# Altium footprint library Component.PcbLib: 46 footprints (part 3 of 3)
Each footprint in its own frame and in the unit in brackets; x right, y up, seen from the top. Pads: shape width x height; smd on the part's side, far side on the other; paste and mask are expansions set on the pad; w line width, h text height; cw(c..) or ccw(c..) is an arc to the next point about the centre after c.
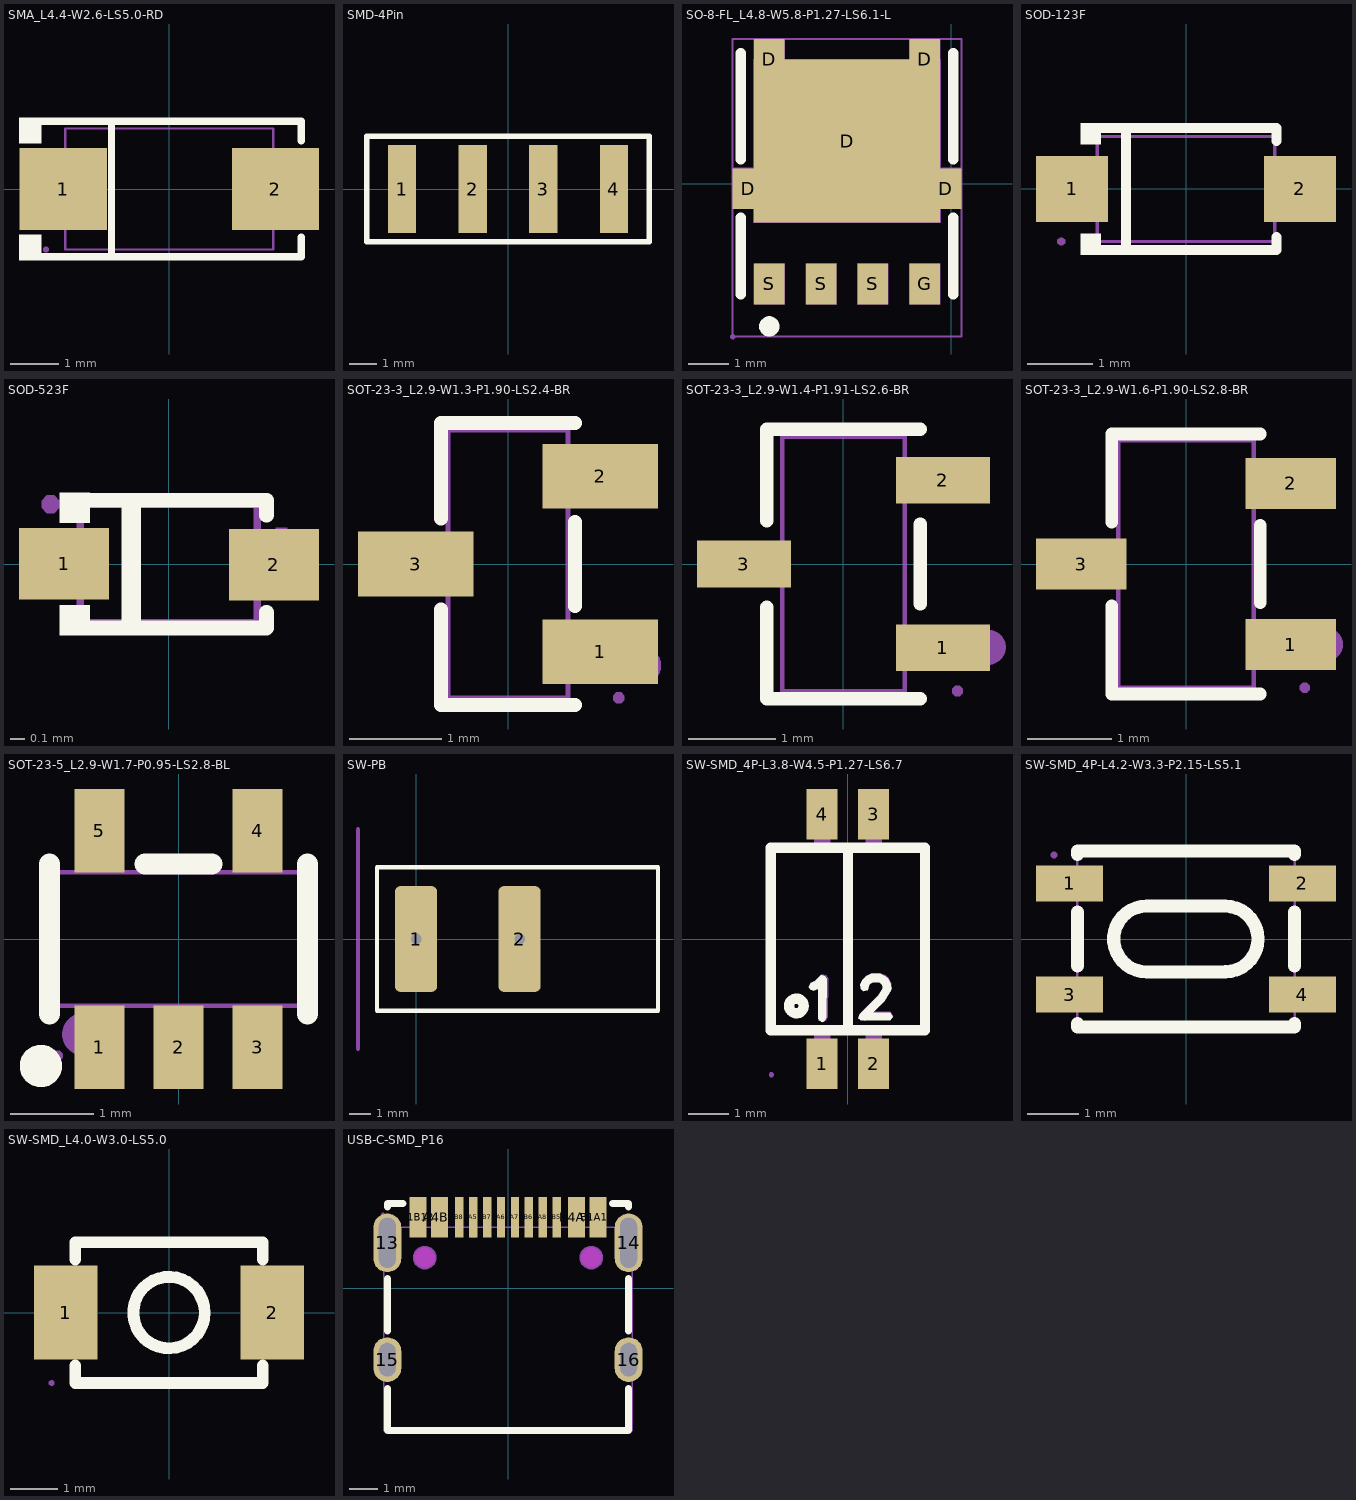
[diagram p2: the footprints below, top view; thin cyan lines are the x and y axes]

## SMA_L4.4-W2.6-LS5.0-RD [mm]
pads (2):
  rect 1.8x1.7 smd paste+0 mask+0.051: 1(-2.192,0) 2(2.192,0)
Top Overlay:
  region: -2.65,1.477 -2.65,0.949 -3.107,0.949 -3.107,1.477
  region: -2.65,-1.477 -2.65,-0.949 -3.107,-0.949 -3.107,-1.477
  lines w0.152: -2.726,-1.401 2.726,-1.401 2.726,-1 ; -2.726,1.401 2.726,1.401 2.726,1 ; -1.197,-1.401 -1.197,1.401
Mechanical 6:
  region: -2.451,-0.099 -2.451,0.099 -1.656,0.099 -1.656,-0.099
  region: 2.451,-0.099 2.451,0.099 1.656,0.099 1.656,-0.099
  region: 2.153,-0.663 2.153,0.663 1.954,0.663 1.954,-0.663
Mechanical 15:
  region: -2.55,-1.19 -2.525,-1.19 -2.49,-1.225 -2.49,-1.275 -2.525,-1.31 -2.55,-1.31 -2.575,-1.31 -2.61,-1.275 -2.61,-1.225 -2.575,-1.19 -2.55,-1.19
  region: -1.35,0.725 -1.35,-0.725 -2.55,-0.725 -2.55,0.725
  region: 1.35,-0.725 1.35,0.725 2.55,0.725 2.55,-0.725
  lines w0.051: -2.15,-1.25 -2.15,1.25 2.15,1.25 2.15,-1.25 -2.15,-1.25
3D body "3D_PCB1_2023-08-16.step": height 2.1, standoff 0, extent -2.6,-1.245 2.6,1.255

## SMD-4Pin [mm]
pads (4):
  rect 1.02x3.17 smd paste+0 mask+0.051: 1(-3.81,0) 2(-1.27,0) 3(1.27,0) 4(3.81,0)
Top Overlay:
  lines w0.2: -5.08,-1.905 -5.08,1.905 5.08,1.905 5.08,-1.905 -5.08,-1.905
Mechanical 15:
  region: 3.49,0.446 4.13,0.446 4.13,-0.904 3.49,-0.904
  region: 0.95,0.446 1.59,0.446 1.59,-0.904 0.95,-0.904
  region: -1.59,0.446 -0.95,0.446 -0.95,-0.904 -1.59,-0.904
  region: -4.13,0.446 -3.49,0.446 -3.49,-0.904 -4.13,-0.904

## SO-8-FL_L4.8-W5.8-P1.27-LS6.1-L [mm]
pads (9):
  rect 0.75x1 smd paste+0 mask+0.051: D(-4.975,-0.12) D(-4.455,3.05) D(-0.645,3.05) D(-0.125,-0.12) G(-0.645,-2.45) S(-4.455,-2.45) S(-3.185,-2.45) S(-1.915,-2.45)
  rect 4.56x4 smd paste+0 mask+0.051: D(-2.55,1.05)
Top Overlay:
  lines w0.249: -4.455,-3.366 ccw(c-4.454,-3.49) -4.452,-3.366
  lines w0.254: -5.15,-2.702 -5.15,-0.833 ; -5.15,0.6 -5.15,3.2 ; 0.05,-2.702 0.05,-0.833 ; 0.05,0.6 0.05,3.2
Mechanical 15:
  region: -4.85,-0.95 -4.85,3.05 -0.25,3.05 -0.25,-0.95
  region: -3.56,-2.95 -3.56,-1.95 -2.81,-1.95 -2.81,-2.95
  region: -4.83,-2.95 -4.83,-1.95 -4.08,-1.95 -4.08,-2.95
  region: -2.29,-2.95 -2.29,-1.95 -1.54,-1.95 -1.54,-2.95
  region: -1.02,-2.95 -1.02,-1.95 -0.27,-1.95 -0.27,-2.95
  region: -4.83,2.55 -4.83,3.55 -4.08,3.55 -4.08,2.55
  region: -1.02,2.55 -1.02,3.55 -0.27,3.55 -0.27,2.55
  region: -0.25,-0.6 -0.25,0.4 0.25,0.4 0.25,-0.6
  region: -5.35,-0.6 -5.35,0.4 -4.85,0.4 -4.85,-0.6
  region: -5.29,-3.739 -5.29,-3.714 -5.325,-3.679 -5.375,-3.679 -5.41,-3.714 -5.41,-3.739 -5.41,-3.764 -5.375,-3.799 -5.325,-3.799 -5.29,-3.764
  lines w0.051: -5.35,-3.739 -5.35,3.55 0.25,3.55 0.25,-3.739 -5.35,-3.739
3D body "User Library-DFN5x6_SO8FL.STEP": height 1.13, standoff 0, extent -5.115,-2.769 0.035,3.381

## SOD-123F [mm] "L2.7-W1.6-LS3.8-RD"
pads (2):
  rect 1.1x1 smd mask+0.051: 1(-1.735,0) 2(1.735,0)
Top Overlay:
  region: -1.3,1.002 -1.3,0.682 -1.605,0.682 -1.605,1.002
  region: -1.3,-1.003 -1.3,-0.683 -1.605,-0.683 -1.605,-1.003
  lines w0.152: -1.376,-0.926 1.376,-0.926 1.376,-0.733 ; -1.376,0.926 1.376,0.926 1.376,0.733 ; -0.917,-0.876 -0.917,0.876
Mechanical 6:
  region: -2.032,0.127 -2.032,-0.065 -1.264,-0.065 -1.264,0.127
  region: 2.035,0.096 2.035,-0.096 1.267,-0.096 1.267,0.096
  region: 1.747,-0.384 1.555,-0.384 1.555,0.384 1.747,0.384
Mechanical 15:
  region: -1.84,-0.8 -1.84,-0.775 -1.875,-0.74 -1.925,-0.74 -1.96,-0.775 -1.96,-0.8 -1.96,-0.825 -1.925,-0.86 -1.875,-0.86 -1.84,-0.825
  region: 1.9,0.275 1.9,-0.275 1.31,-0.275 1.31,0.275
  region: -1.9,-0.275 -1.9,0.275 -1.31,0.275 -1.31,-0.275
  lines w0.051: -1.35,-0.8 -1.35,0.8 1.35,0.8 1.35,-0.8 -1.35,-0.8
3D body "3D_PCB1_2023-02-23.step": height 1.1, standoff 0, extent -1.925,-0.787 1.875,0.813

## SOD-523F [mil] "L1.2-W0.8-LS1.7-RD"
pads (2):
  rect 24x19 smd: 1(-27.87,0.08) 2(28,-0.19)
Top Overlay:
  region: -21,-11 -25,-11 -29,-11 -29,-19 -21,-19
  region: -21,19 -25,19 -29,19 -29,11 -21,11
  region: -12.51,-16.5 -12.51,16.5 -7.5,16.5 -7.5,-16.5
  lines w3.94: -26,17 26,17 26,13 ; 25.99,-12.84 25.99,-17 -26.01,-17 ; -26.01,-17 -26,-17
Mechanical 6:
  region: 28.5,-7.34 28.5,9.66 31.5,9.66 31.5,-7.34
  region: 22,3.16 38.99,3.16 38.99,0.16 22,0.16
  region: -35.01,4.16 -19,4.16 -19,0.16 -35.01,0.16
Mechanical 15:
  region: 20,-5.85 31.49,-5.85 31.49,5.96 20,5.96
  region: -20,6.1 -31.5,6.1 -31.5,-5.71 -20,-5.71
  region: -29.14,15.91 -29.14,16.89 -30.52,18.27 -32.48,18.27 -33.86,16.89 -33.86,15.91 -33.86,14.93 -32.48,13.55 -30.52,13.55 -29.14,14.93
  lines w2: -23.63,-15.59 -23.63,15.91 23.62,15.91 23.62,-15.59 -23.63,-15.59
3D body "3D_PCB1_2023-02-22.step": height 24.02, standoff 0, extent -31.5,-16 31.5,15.5

## SOT-23-3_L2.9-W1.3-P1.90-LS2.4-BR [mm]
pads (3):
  rect 1.25x0.7 smd: 1(1,-0.95) 2(1,0.95) 3(-1,0)
Top Overlay:
  lines w0.152: -0.726,-0.495 -0.726,-1.526 0.726,-1.526 ; -0.726,0.495 -0.726,1.526 0.726,1.526 ; 0.726,-0.455 0.726,0.455
Mechanical 6:
  circle w0.2: c1.46,-1.1 r0.1
Mechanical 15:
  region: 1.26,-1.45 1.26,-1.425 1.225,-1.39 1.175,-1.39 1.14,-1.425 1.14,-1.45 1.14,-1.475 1.175,-1.51 1.225,-1.51 1.26,-1.475
  region: 0.64,0.735 0.64,1.165 0.91,1.165 0.91,0.735
  region: 0.9,0.735 0.9,1.165 1.2,1.165 1.2,0.735
  region: 0.64,-1.165 0.64,-0.735 0.91,-0.735 0.91,-1.165
  region: 0.9,-1.165 0.9,-0.735 1.2,-0.735 1.2,-1.165
  region: -0.91,-0.215 -0.91,0.215 -0.64,0.215 -0.64,-0.215
  region: -1.2,-0.215 -1.2,0.215 -0.9,0.215 -0.9,-0.215
  lines w0.051: -0.65,-1.45 -0.65,1.45 0.65,1.45 0.65,-1.45 -0.65,-1.45

## SOT-23-3_L2.9-W1.4-P1.91-LS2.6-BR [mm]
pads (3):
  rect 1.07x0.532 smd: 1(1.135,-0.955) 2(1.135,0.955) 3(-1.135,0)
Top Overlay:
  lines w0.152: -0.876,-0.495 -0.876,-1.536 0.876,-1.536 ; -0.876,0.495 -0.876,1.536 0.876,1.536 ; 0.876,-0.455 0.876,0.455
Mechanical 6:
  circle w0.2: c1.651,-0.95 r0.1
Mechanical 15:
  region: 1.36,-1.45 1.36,-1.425 1.325,-1.39 1.275,-1.39 1.24,-1.425 1.24,-1.45 1.24,-1.475 1.275,-1.51 1.325,-1.51 1.36,-1.475 1.36,-1.45
  region: -0.96,-0.212 -0.96,0.212 -0.69,0.212 -0.69,-0.212
  region: -1.3,-0.212 -1.3,0.212 -0.95,0.212 -0.95,-0.212
  region: 0.69,0.742 0.69,1.167 0.96,1.167 0.96,0.742
  region: 0.95,0.742 0.95,1.167 1.3,1.167 1.3,0.742
  region: 0.69,-1.167 0.69,-0.742 0.96,-0.742 0.96,-1.167
  region: 0.95,-1.167 0.95,-0.742 1.3,-0.742 1.3,-1.167
  lines w0.051: -0.7,-1.45 -0.7,1.45 0.7,1.45 0.7,-1.45 -0.7,-1.45

## SOT-23-3_L2.9-W1.6-P1.90-LS2.8-BR [mm]
pads (3):
  rect 1.07x0.6 smd: 1(1.235,-0.95) 2(1.235,0.95) 3(-1.235,0)
Top Overlay:
  lines w0.152: -0.876,-0.495 -0.876,-1.536 0.876,-1.536 ; -0.876,0.495 -0.876,1.536 0.876,1.536 ; 0.876,-0.455 0.876,0.455
Mechanical 6:
  circle w0.2: c1.651,-0.95 r0.1
Mechanical 15:
  region: -0.96,-0.2 -0.96,0.2 -0.79,0.2 -0.79,-0.2
  region: -0.95,-0.2 -0.95,0.2 -1.4,0.2 -1.4,-0.2
  region: 0.79,0.75 0.79,1.15 0.96,1.15 0.96,0.75
  region: 0.95,0.75 0.95,1.15 1.4,1.15 1.4,0.75
  region: 0.79,-1.15 0.79,-0.75 0.96,-0.75 0.96,-1.15
  region: 0.95,-1.15 0.95,-0.75 1.4,-0.75 1.4,-1.15
  region: 1.46,-1.46 1.46,-1.435 1.425,-1.4 1.375,-1.4 1.34,-1.435 1.34,-1.46 1.34,-1.485 1.375,-1.52 1.425,-1.52 1.46,-1.485
  lines w0.051: -0.8,-1.46 0.8,-1.46 0.8,1.46 -0.8,1.46 -0.8,-1.46

## SOT-23-5_L2.9-W1.7-P0.95-LS2.8-BL [mm]
pads (5):
  rect 0.6x1 smd paste+0 mask+0.051: 1(-0.95,-1.3) 2(0,-1.3) 3(0.95,-1.3) 4(0.95,1.3) 5(-0.95,1.3)
Top Overlay:
  circle w0.254: c-1.651,-1.524 r0.127
  lines w0.254: -1.55,-0.9 -1.55,0.9 ; -0.4,0.9 0.4,0.9 ; 1.55,-0.9 1.55,0.9
Mechanical 6:
  circle w0.254: c-1.143,-1.143 r0.127
Mechanical 15:
  region: -1.15,-0.79 -0.75,-0.79 -0.75,-0.96 -1.15,-0.96
  region: -1.15,-0.95 -0.75,-0.95 -0.75,-1.4 -1.15,-1.4
  region: -0.2,-0.79 0.2,-0.79 0.2,-0.96 -0.2,-0.96
  region: -0.2,-0.95 0.2,-0.95 0.2,-1.4 -0.2,-1.4
  region: 0.75,-0.79 1.15,-0.79 1.15,-0.96 0.75,-0.96
  region: 0.75,-0.95 1.15,-0.95 1.15,-1.4 0.75,-1.4
  region: 0.75,0.96 1.15,0.96 1.15,0.79 0.75,0.79
  region: 0.75,1.4 1.15,1.4 1.15,0.95 0.75,0.95
  region: -1.15,0.96 -0.75,0.96 -0.75,0.79 -1.15,0.79
  region: -1.15,1.4 -0.75,1.4 -0.75,0.95 -1.15,0.95
  region: -1.45,-1.34 -1.425,-1.34 -1.39,-1.375 -1.39,-1.425 -1.425,-1.46 -1.45,-1.46 -1.475,-1.46 -1.51,-1.425 -1.51,-1.375 -1.475,-1.34 -1.45,-1.34
  lines w0.051: -1.45,-0.8 -1.45,0.8 1.45,0.8 1.45,-0.8 -1.45,-0.8

## SW-PB [mm] "船型开关"
pads (2):
  rrect25% 2x5 hole 0.5 square: 1(0,0) 2(4.9,0)
Top Overlay:
  lines w0.2: -1.85,-3.391 -1.85,3.391 11.45,3.391 11.45,-3.391 -1.85,-3.391
Mechanical 1:
  lines w0.2: -2.75,-5.2 -2.75,5.2
3D body "船型开关 KCD11 250V 3A v2.step": height 12.8, standoff -6.6, extent -2.75,-5.2 12.25,5.2

## SW-SMD_4P-L3.8-W4.5-P1.27-LS6.7 [mm]
pads (4):
  rect 0.762x1.25 smd paste+0 mask+0.051: 1(-0.635,-3.075) 2(0.635,-3.075) 3(0.635,3.075) 4(-0.635,3.075)
Top Overlay:
  circle w0.254: c-1.27,-1.651 r0.18
  region: 0.38,-1.29 0.49,-1.26 0.51,-1.17 0.54,-1.12 0.57,-1.09 0.62,-1.07 0.76,-1.07 0.82,-1.1 0.84,-1.13 0.86,-1.17 0.86,-1.21 0.83,-1.27 0.75,-1.4 0.29,-1.85 0.26,-1.95 0.32,-2.01 0.42,-2.02 1.04,-2.01 1.11,-1.92 1.04,-1.82 0.61,-1.82 0.9,-1.54 1.07,-1.25 1.06,-1.11 0.99,-0.98 0.92,-0.92 0.8,-0.86 0.58,-0.86 0.45,-0.92 0.37,-1.01 0.31,-1.11 0.32,-1.23
  region: -0.815,-1.045 -0.655,-0.885 -0.565,-0.915 -0.525,-0.985 -0.535,-1.945 -0.565,-2.015 -0.635,-2.055 -0.715,-2.005 -0.735,-1.955 -0.735,-1.225 -0.845,-1.275 -0.915,-1.255 -0.965,-1.185 -0.915,-1.085
  lines w0.254: 0,-2.159 0,2.159 ; -1.9,-2.25 1.9,-2.25 1.9,2.25 -1.9,2.25 -1.9,-2.25
Mechanical 6:
  region: 0.39,-1.27 0.5,-1.24 0.52,-1.15 0.55,-1.1 0.58,-1.07 0.63,-1.05 0.77,-1.05 0.83,-1.08 0.85,-1.11 0.87,-1.15 0.87,-1.19 0.84,-1.25 0.76,-1.38 0.3,-1.83 0.27,-1.93 0.33,-1.99 0.43,-2 1.05,-1.99 1.12,-1.9 1.05,-1.8 0.62,-1.8 0.91,-1.52 1.08,-1.23 1.07,-1.09 1,-0.96 0.93,-0.9 0.81,-0.84 0.59,-0.84 0.46,-0.9 0.38,-0.99 0.32,-1.09 0.33,-1.21
  region: -0.78,-1.03 -0.62,-0.87 -0.53,-0.9 -0.49,-0.97 -0.5,-1.93 -0.53,-2 -0.6,-2.04 -0.68,-1.99 -0.7,-1.94 -0.7,-1.21 -0.81,-1.26 -0.88,-1.24 -0.93,-1.17 -0.88,-1.07
Mechanical 15:
  region: -0.835,-3.35 -0.835,-2.75 -0.435,-2.75 -0.435,-3.35
  region: -0.835,-2.76 -0.835,-2.24 -0.435,-2.24 -0.435,-2.76
  region: -0.835,2.75 -0.835,3.35 -0.435,3.35 -0.435,2.75
  region: -0.835,2.24 -0.835,2.76 -0.435,2.76 -0.435,2.24
  region: 0.435,2.75 0.435,3.35 0.835,3.35 0.835,2.75
  region: 0.435,2.24 0.435,2.76 0.835,2.76 0.835,2.24
  region: 0.435,-3.35 0.435,-2.75 0.835,-2.75 0.835,-3.35
  region: 0.435,-2.76 0.435,-2.24 0.835,-2.24 0.835,-2.76
  region: -1.885,-3.29 -1.91,-3.29 -1.945,-3.325 -1.945,-3.375 -1.91,-3.41 -1.885,-3.41 -1.86,-3.41 -1.825,-3.375 -1.825,-3.325 -1.86,-3.29 -1.885,-3.29
  lines w0.051: -1.885,-2.25 -1.885,2.25 1.885,2.25 1.885,-2.25 -1.885,-2.25

## SW-SMD_4P-L4.2-W3.3-P2.15-LS5.1 [mm]
pads (4):
  rect 1.3x0.7 smd paste+0 mask+0.051: 1(-2.25,1.075) 2(2.25,1.075) 3(-2.25,-1.075) 4(2.25,-1.075)
Top Overlay:
  lines w0.254: -2.1,-1.631 -2.1,-1.7 2.1,-1.7 2.1,-1.631 ; -2.1,-0.519 -2.1,0.519 ; -2.1,1.631 -2.1,1.7 2.1,1.7 2.1,1.631 ; -0.763,0.636 ccw(c-0.763,0) -0.762,-0.635 0.762,-0.635 ; -0.762,0.635 0.762,0.635 cw(c0.757,0) 0.761,-0.634 ; 2.1,-0.519 2.1,0.519
Mechanical 15:
  region: -1.9,1.35 -1.9,0.8 -2.55,0.8 -2.55,1.35
  region: 2.55,1.35 2.55,0.8 1.9,0.8 1.9,1.35
  region: -1.9,-0.8 -1.9,-1.35 -2.55,-1.35 -2.55,-0.8
  region: 2.55,-0.8 2.55,-1.35 1.9,-1.35 1.9,-0.8
  region: -2.49,1.625 -2.49,1.65 -2.525,1.685 -2.575,1.685 -2.61,1.65 -2.61,1.625 -2.61,1.6 -2.575,1.565 -2.525,1.565 -2.49,1.6 -2.49,1.625
  lines w0.051: -2.1,-1.625 2.1,-1.625 2.1,1.625 -2.1,1.625 -2.1,-1.625

## SW-SMD_L4.0-W3.0-LS5.0 [mm]
pads (2):
  rect 1.35x2 smd: 1(-2.2,0) 2(2.2,0)
Top Overlay:
  circle w0.254: c0,0 r0.762
  lines w0.254: -2,-1.131 -2,-1.5 2,-1.5 2,-1.131 ; -2,1.131 -2,1.5 2,1.5 2,1.131
Mechanical 15:
  region: -2.443,-1.5 -2.443,-1.475 -2.478,-1.44 -2.528,-1.44 -2.563,-1.475 -2.563,-1.5 -2.563,-1.525 -2.528,-1.56 -2.478,-1.56 -2.443,-1.525
  region: -2.503,0.65 -1.803,0.65 -1.803,-0.65 -2.503,-0.65
  region: 1.803,0.65 2.503,0.65 2.503,-0.65 1.803,-0.65
  lines w0.051: -2,-1.5 2,-1.5 2,1.5 -2,1.5 -2,-1.5
3D body "3D_PCB1_2023-08-17.step": height 2, standoff 0, extent -2.511,-1.499 2.489,1.501

## USB-C-SMD_P16 [mil]
pads (16):
  oval 39.4x82.7 hole 23.6 slot 70.9 at 90 deg paste+0 mask+2: 13(-170.1,64.3) 14(170.1,64.3)
  oval 39.4x63 hole 23.6 slot 47.2 at 90 deg paste+0 mask+2: 15(-170.1,-100.3) 16(170.1,-100.3)
  rect 23.6x57.1 smd paste+0 mask+2: A1B12(-127,100.3) A4B9(-96.5,100.3) B1A12(126.8,100.3) B4A9(96.5,100.3)
  rect 11.8x57.1 smd paste+0 mask+2: A5(-49.2,100.3) A6(-9.8,100.3) A7(9.8,100.3) A8(49.2,100.3) B5(68.9,100.3) B6(29.5,100.3) B7(-29.5,100.3) B8(-68.9,100.3)
Top Overlay:
  lines w10: -170,-140.9 -170,-200 170,-200 170,-140.9 ; -170,-59.7 -170,13.8 ; -170,114.7 -170,120 -147.9,120 ; 147.7,120 170,120 170,114.7 ; 170,-59.7 170,13.8
Keep-Out Layer:
  board cut-out: 117.3,57.2 114.56,57.2 109.48,55.1 105.6,51.22 103.5,46.14 103.5,40.66 105.6,35.58 109.48,31.7 114.56,29.6 117.3,29.6 120.04,29.6 125.12,31.7 129,35.58 131.1,40.66 131.1,46.14 129,51.22 125.12,55.1 120.04,57.2 117.3,57.2
  board cut-out: -117.3,57.2 -120.05,57.2 -125.12,55.1 -129,51.22 -131.1,46.14 -131.1,40.66 -129,35.58 -125.12,31.7 -120.05,29.6 -117.3,29.6 -114.56,29.6 -109.48,31.7 -105.6,35.58 -103.5,40.66 -103.5,46.14 -105.6,51.22 -109.48,55.1 -114.56,57.2 -117.3,57.2
Mechanical 1:
  circle w0.2: c117.3,43.4 r13.8
  circle w0.2: c-117.3,43.4 r13.8
Mechanical 15:
  circle w2: c117.3,43.4 r6.9
  circle w2: c-117.3,43.4 r6.9
  region: 117.3,59.7 114.06,59.7 108.07,57.22 103.48,52.63 101,46.64 101,40.16 103.48,34.17 108.07,29.58 114.06,27.1 117.3,27.1 120.54,27.1 126.53,29.58 131.12,34.17 133.6,40.16 133.6,46.64 131.12,52.63 126.53,57.22 120.54,59.7 117.3,59.7
  region: -117.3,59.7 -120.54,59.7 -126.53,57.22 -131.12,52.63 -133.6,46.64 -133.6,40.16 -131.12,34.17 -126.53,29.58 -120.54,27.1 -117.3,27.1 -114.06,27.1 -108.07,29.58 -103.48,34.17 -101,40.16 -101,46.64 -103.48,52.63 -108.07,57.22 -114.06,59.7 -117.3,59.7
  region: -176,106.6 -176.99,106.6 -178.4,105.19 -178.4,103.21 -176.99,101.8 -176,101.8 -175.01,101.8 -173.6,103.21 -173.6,105.19 -175.01,106.6 -176,106.6
  region: -72.8,104.2 -65,104.2 -65,72.7 -72.8,72.7
  region: -53.5,103.6 -45.7,103.6 -45.7,72.1 -53.5,72.1
  region: -33.5,104.2 -25.6,104.2 -25.6,72.7 -33.5,72.7
  region: -13.8,104.2 -5.9,104.2 -5.9,72.7 -13.8,72.7
  region: 5.9,104.2 13.8,104.2 13.8,72.7 5.9,72.7
  region: 25.6,104.2 33.5,104.2 33.5,72.7 25.6,72.7
  region: 45.3,104.2 53.2,104.2 53.2,72.7 45.3,72.7
  region: 65,104.2 72.8,104.2 72.8,72.7 65,72.7
  region: -134.8,104.2 -119.1,104.2 -119.1,72.7 -134.8,72.7
  region: -104.3,104.2 -88.6,104.2 -88.6,72.7 -104.3,72.7
  region: 88.6,104.2 104.3,104.2 104.3,72.7 88.6,72.7
  region: 118.9,104.2 134.6,104.2 134.6,72.7 118.9,72.7
  region: -176,84.9 -164.2,84.9 -164.2,43.6 -176,43.6
  region: 164.2,84.9 176,84.9 176,43.6 164.2,43.6
  region: -176,-84.5 -164.2,-84.5 -164.2,-116 -176,-116
  region: 164.2,-84.5 176,-84.5 176,-116 164.2,-116
  lines w2: -175,-200.8 175.4,-200.8 175.4,86.6 -175,86.6 -175,-200.8